# EAGLE library part SMA-B500 (library MyoWare_LED_Shield)
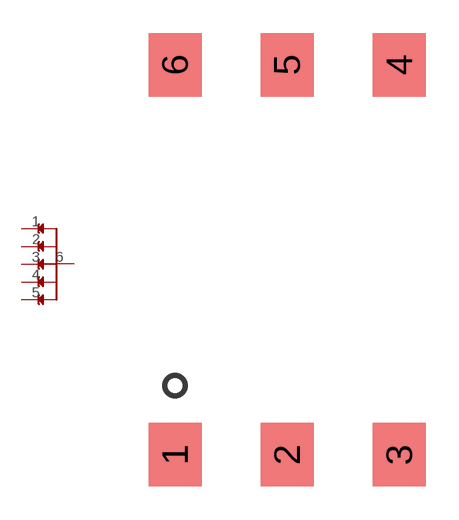
[diagram p0: symbol with the pads of LED_BAR_SMD; footprint LED_BAR_SMD]

Designator prefix -

## SMA-B500  [LED_BAR_SMD]
1  1
2  2
3  3
4  4
5  5
6  6

## Footprint LED_BAR_SMD (pad centres in mm)
smd 2.4 x 2.88: 1 -5.08,-8.84; 2 0,-8.84; 3 5.08,-8.84; 4 5.08,8.84; 5 0,8.84; 6 -5.08,8.84